# Altium integrated library FPC_15_Position_Vertical.IntLib: 1 symbol
Pins are listed as number, name and electrical type; pins without a type are passive.

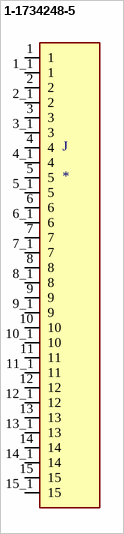
[diagram p0: symbol 1-1734248-5]

## 1-1734248-5
designator J
FPC CONNECTOR, RECEPTACLE 15POS 1MMPITCH; Series:FPC; Gender:Receptacle; Pitch S; MP: 1-1734248-5; MF: TE Connectivity; EU_RoHS_Compliance: Compliant; TE_purchase_URL: https://www.te.com/usa-en/product-1-1734248-5.html?te_bu=Cor&te_type=disp&te_campaign=seda_glo_cor-seda-global-disp-prtnr-fy19-seda-model-bom-cta_sma-317_1&elqCampaignId=32493; SnapEDA_Link: https://www.snapeda.com/parts/1-1734248-5/TE%20Connectivity%20AMP%20Connectors/view-part/822357/?ref=snap; Package: None; Digi-Key_Purchase_URL: https://www.digikey.com/product-detail/en/te-connectivity-amp-connectors/1-1734248-5/A101418CT-ND/2567554?utm_source=snapeda&utm_medium=aggregator&utm_campaign=symbol; Digi-Key_Part_Number: A101418CT-ND; Value: *
footprint TE_1-1734248-5
pins: 1, 1_1 1, 2, 2_1 2, 3, 3_1 3, 4, 4_1 4, 5, 5_1 5, 6, 6_1 6, 7, 7_1 7, 8, 8_1 8, 9, 9_1 9, 10, 10_1 10, 11, 11_1 11, 12, 12_1 12, 13, 13_1 13, 14, 14_1 14, 15, 15_1 15